# Altium schematic symbol library OS202013MT8QN1.SchLib: 1 symbol
Pins are listed as number, name and electrical type; pins without a type are passive.

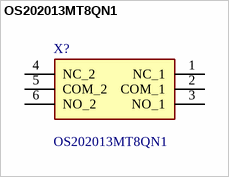
[diagram p0: symbol OS202013MT8QN1]

## OS202013MT8QN1
designator X?
SWITCH SLIDE DPDT 300MA 30V; Manufacturer_Name: C & K COMPONENTS; Geometry.Height: 11mm; Manufacturer_Part_Number: OS202013MT8QN1; Mouser Part Number: 611-OS202013MT8QN1; Mouser Price/Stock: https://www.mouser.co.uk/ProductDetail/CK/OS202013MT8QN1?qs=WtljUlYws5RhlgqE4KzYAw%3D%3D; Arrow Part Number: OS202013MT8QN1; Arrow Price/Stock: https://www.arrow.com/en/products/os202013mt8qn1/ck?region=europe; Datasheet Link: https://www.ckswitches.com/media/1428/os.pdf
footprint OS202013MT8QN1
pins: 1 NC_1, 2 COM_1, 3 NO_1, 4 NC_2, 5 COM_2, 6 NO_2